# EAGLE library part MM74HCT245N (library Fairchild_By_element14_Batch_1)
Octal 3-STATE Transceiver
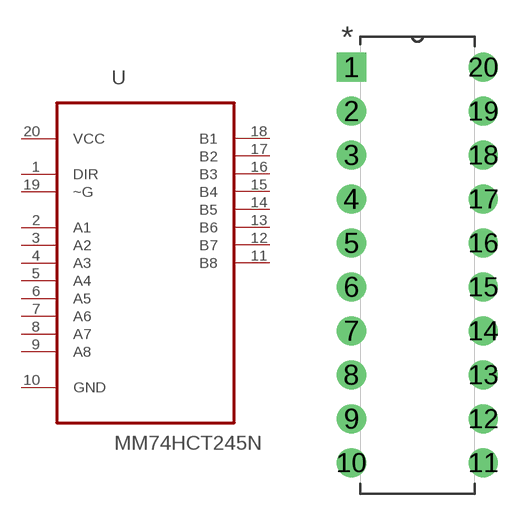
[diagram p323: symbol with the pads of DIP254P762X508-20; footprint DIP254P762X508-20]

Designator prefix U

## MM74HCT245N (MPN: MM74HCT245N; OC_FARNELL: 1014003; OC_NEWARK: 18C7561; PACKAGE: PDIP-20; SUPPLIER: Fairchild)  [DIP254P762X508-20]
1  DIR  in
2  A1
3  A2
4  A3
5  A4
6  A5
7  A6
8  A7
9  A8
10  GND  pas
11  B8
12  B7
13  B6
14  B5
15  B4
16  B3
17  B2
18  B1
19  ~G  in
20  VCC  pwr

## Footprint DIP254P762X508-20 (pad centres in mm)
drill 1.118 square: 1 -7.62,22.86
drill 1.118: 2 -7.62,20.32; 3 -7.62,17.78; 4 -7.62,15.24; 5 -7.62,12.7; 6 -7.62,10.16; 7 -7.62,7.62; 8 -7.62,5.08; 9 -7.62,2.54; 10 -7.62,0; 11 0,0; 12 0,2.54; 13 0,5.08; 14 0,7.62; 15 0,10.16; 16 0,12.7; 17 0,15.24; 18 0,17.78; 19 0,20.32; 20 0,22.86